# EAGLE library part ARDUINO_MEGA_ESP32 (library LinnesLab-Microcontrollers)
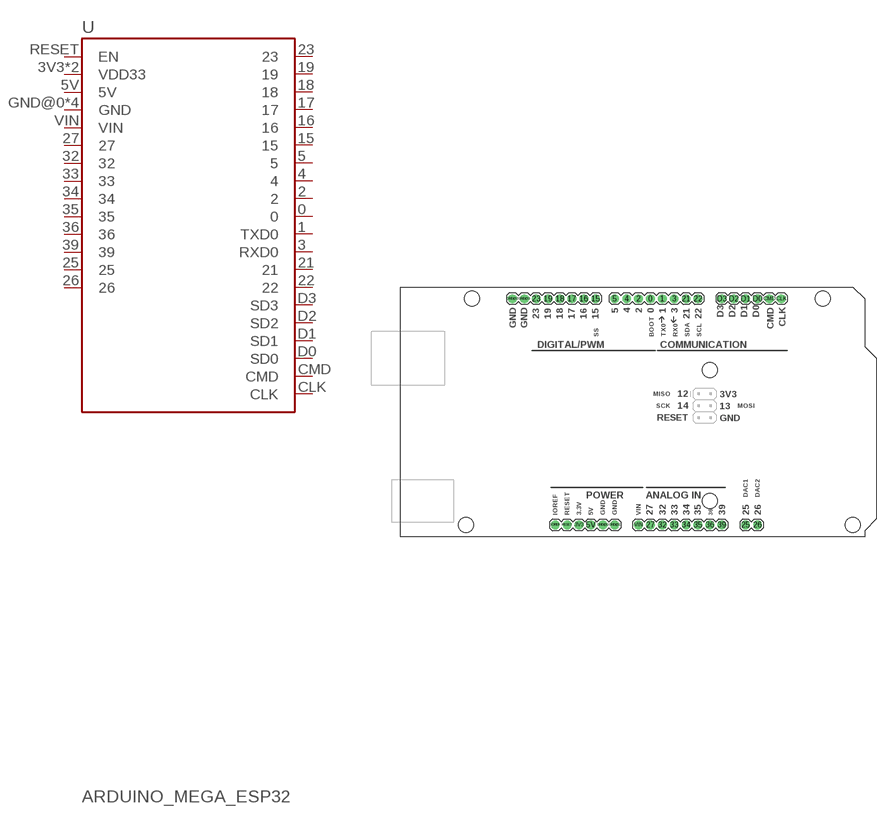
[diagram p28: symbol with the pads of ARDUINO_MEGA_ESP32; footprint ARDUINO_MEGA_ESP32]

Designator prefix -

## ARDUINO_MEGA_ESP32  [ARDUINO_MEGA_ESP32]
0  0
1  TXD0
2  2
3  RXD0
3V3  VDD33  pwr
4  4
5  5
5V  5V  pwr
15  15
16  16
17  17
18  18
19  19
21  21
22  22
23  23
25  25
26  26
27  27  in
32  32
33  33
34  34  in
35  35  in
36  36  in
39  39  in
CLK  CLK
CMD  CMD
D0  SD0
D1  SD1
D2  SD2
D3  SD3
GND@0  GND  pwr
GND@1  GND  pwr
GND@2  GND  pwr
GND@3  GND  pwr
IOREF  VDD33  pwr
RESET  EN  in
VIN  VIN  pwr

## Footprint ARDUINO_MEGA_ESP32 (pad centres in mm)
Arduino MEGA R3 footprint Specifications: Pin count:82 Area:4x2.15 in Example device(s): Arduino Mega R3
drill 1.016 pad 1.88: 0 3.81,24.13; 1 6.35,24.13; 2 1.27,24.13; 3 8.89,24.13; 3V3 -11.43,-24.13; 4 -1.27,24.13; 5 -3.81,24.13; 5V -8.89,-24.13; 15 -7.874,24.13; 16 -10.414,24.13; 17 -12.954,24.13; 18 -15.494,24.13; 19 -18.034,24.13; 21 11.43,24.13; 22 13.97,24.13; 23 -20.574,24.13; 25 24.13,-24.13; 26 26.67,-24.13; 27 3.81,-24.13; 32 6.35,-24.13; 33 8.89,-24.13; 34 11.43,-24.13; 35 13.97,-24.13; 36 16.51,-24.13; 39 19.05,-24.13; CLK 31.75,24.13; CMD 29.21,24.13; D0 26.67,24.13; D1 24.13,24.13; D2 21.59,24.13; D3 19.05,24.13; GND@0 -6.35,-24.13; GND@1 -3.81,-24.13; GND@2 -25.654,24.13; GND@3 -23.114,24.13; IOREF -16.51,-24.13; RESET -13.97,-24.13; VIN 1.27,-24.13
hole 3.2 at -34.29,24.13
hole 3.2 at -35.56,-24.13
hole 3.2 at 16.51,8.89
hole 3.2 at 16.51,-19.05
hole 3.2 at 40.64,24.13
hole 3.2 at 46.99,-24.13